# Altium integrated library WATSH.IntLib: 18 symbols
Pins are listed as number, name and electrical type; pins without a type are passive.

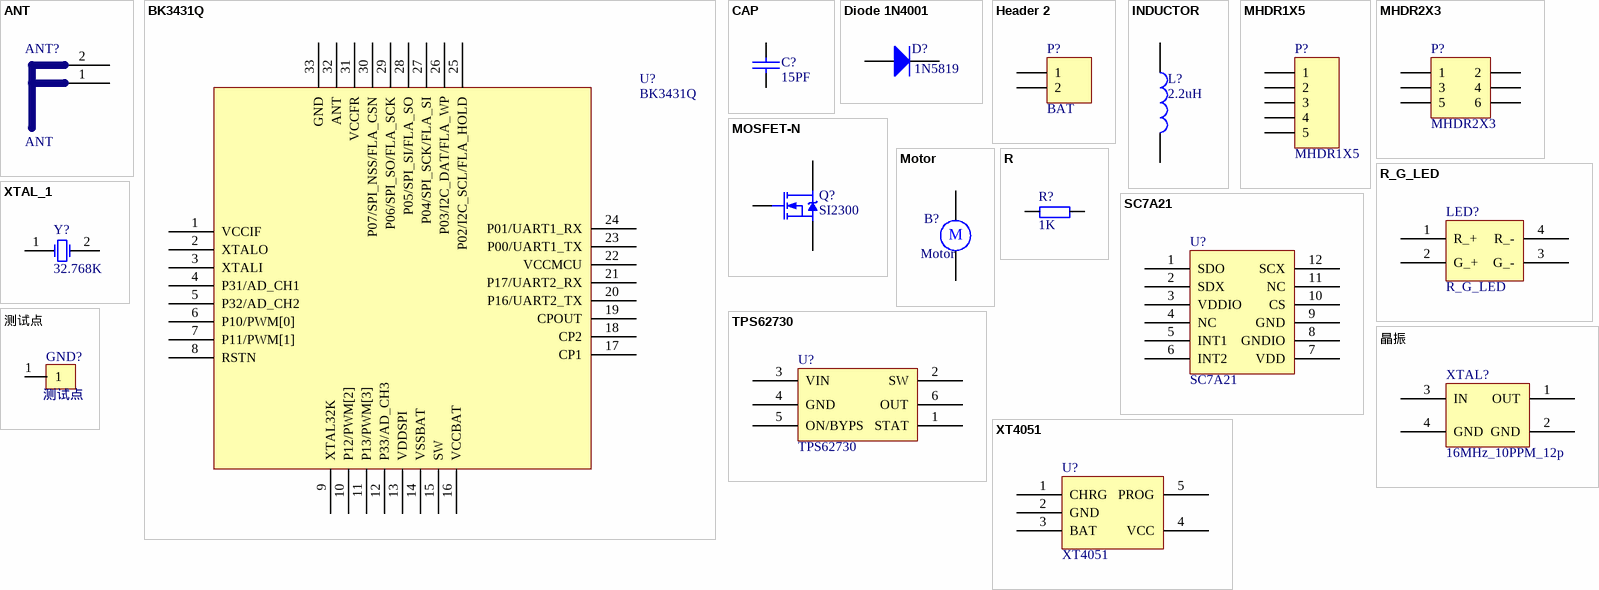
[diagram p0: symbols ANT to 测试点]

## ANT
designator ANT?
footprint 3216
pins: 1 ANT, 2 GND

## BK3431Q
designator U?
footprint QFN32
pins: 1 VCCIF, 2 XTALO, 3 XTALI, 4 P31/AD_CH1, 5 P32/AD_CH2, 6 P10/PWM[0], 7 P11/PWM[1], 8 RSTN, 9 XTAL32K, 10 P12/PWM[2], 11 P13/PWM[3], 12 P33/AD_CH3, 13 VDDSPI, 14 VSSBAT, 15 SW, 16 VCCBAT, 17 CP1, 18 CP2, 19 CPOUT, 20 P16/UART2_TX, 21 P17/UART2_RX, 22 VCCMCU, 23 P00/UART1_TX, 24 P01/UART1_RX, 25 P02/I2C_SCL/FLA_HOLD, 26 P03/I2C_DAT/FLA_WP, 27 P04/SPI_SCK/FLA_SI, 28 P05/SPI_SI/FLA_SO, 29 P06/SPI_SO/FLA_SCK, 30 P07/SPI_NSS/FLA_CSN, 31 VCCFR, 32 ANT, 33 GND

## CAP
designator C?, comment 15PF
Capacitor
footprint 0402_C
pins: 1, 2

## Diode 1N4001
designator D?, comment 1N5819
1 Amp General Purpose Rectifier; Published: 8-Jun-2000; LatestRevisionDate: 17-Jul-2002; LatestRevisionNote: Re-released for DXP Platform.; DatasheetVersion: 1998; PackageVersion: Aug-1999; PackageReference: DO-41; Publisher: Altium Limited; PackageDescription: Diode, Axial; Body 5.2 x 2.7 mm (LxDia. max), Lead Dia. 0.86 mm (max); Code_JEDEC: DO-204-AL; ComponentLink1Description: Manufacturer Link; ComponentLink1URL: http://www.fairchildsemi.com/; ComponentLink2Description: Datasheet; ComponentLink2URL: http://www.fairchildsemi.com/ds/1N%2F1N4001.pdf
footprint SOD-323
simulation model 1N4001 (DIODE)
signal-integrity model 1N4001
pins: 1 A, 2 K

## Header 2
designator P?, comment BAT
Header, 2-Pin; LatestRevisionDate: 17-Jul-2002; LatestRevisionNote: Re-released for DXP Platform.; Publisher: Altium Limited
footprint HDR1X2 (Connector; Header; 2 Position)
signal-integrity model Connector
pins: 1, 2

## INDUCTOR
designator L?, comment 2.2uH
footprint 0603S
footprint 0603p
pins: 1, 2

## MHDR1X5
designator P?
Header, 5-Pin; LatestRevisionDate: 17-Jul-2002; LatestRevisionNote: Re-released for DXP Platform.; Publisher: Altium Limited
footprint MINI_USB_2P
signal-integrity model Connector
pins: 1, 2, 3, 4, 5

## MHDR2X3
designator P?
Header, 3-Pin, Dual row; LatestRevisionDate: 17-Jul-2002; LatestRevisionNote: Re-released for DXP Platform.; Publisher: Altium Limited
footprint AXF-6A-M
signal-integrity model Connector
pins: 1, 2, 3, 4, 5, 6

## MOSFET-N
designator Q?, comment SI2300
N-Channel MOSFET; PackageDocument: 1995/1996; Published: 8-Jun-2000; LatestRevisionDate: 17-Jul-2002; LatestRevisionNote: Re-released for DXP Platform.; PackageReference: E3; Publisher: Altium Limited
footprint SOT-523; pin to pad D>3 G>1 S>2
pins: D, G, S

## Motor
designator B?
Motor, General Kind; Published: 24-Mar-1999; LatestRevisionDate: 17-Jul-2002; LatestRevisionNote: Re-released for DXP Platform.; PackageReference: RB5-10.5; Publisher: Altium Limited; PackageDescription: Capacitor (Radial); 2 Leads
footprint MODER
pins: 1, 2
text: M

## R
designator R?, comment 1K
footprint 0805
footprint 0603P
footprint RL (10o/0.7uH)
footprint R16.0 (RX/1W)
footprint 1206
footprint 1210
footprint R20.0 (RX/2W)
footprint R10.16 (STD)
footprint RLN9 (13.5mm*5.1mm)
footprint 0402_R
pins: 1, 2

## R_G_LED
designator LED?
footprint 0603_R_G_LED
pins: 1 R_+, 2 G_+, 3 G_-, 4 R_-

## SC7A21
designator U?
footprint LGA-12-2*2*1
pins: 1 SDO, 2 SDX, 3 VDDIO, 4 NC, 5 INT1, 6 INT2, 7 VDD, 8 GNDIO, 9 GND, 10 CS, 11 NC, 12 SCX

## TPS62730
designator U?
footprint R-PUSON-N6
pins: 1 STAT, 2 SW, 3 VIN, 4 GND, 5 ON/BYPS, 6 OUT

## XT4051
designator U?
footprint SOT-23-5L
pins: 1 CHRG, 2 GND, 3 BAT, 4 VCC, 5 PROG

## XTAL_1
designator Y?, comment 32.768K
Crystal Oscillator; Published: 8-Jun-2000; LatestRevisionDate: 17-Jul-2002; LatestRevisionNote: Re-released for DXP Platform.; Publisher: Altium Limited
footprint 晶振1.5*3.2
simulation model XTAL (Spice Subcircuit)
pins: 1 OSC1, 2 OSC2

## 晶振
designator XTAL?, comment 16MHz_10PPM_12p
footprint 晶振2*2.6
pins: 1 OUT, 2 GND, 3 IN, 4 GND

## 测试点
designator GND?
footprint 测试点
footprint TEXT_POINT
pins: 1